# Altium footprint library RectangularConnectors.PcbLib: 154 footprints (part 1 of 10)
Each footprint in its own frame and in the unit in brackets; x right, y up, seen from the top. Pads: shape width x height; smd on the part's side, far side on the other; paste and mask are expansions set on the pad; w line width, h text height; cw(c..) or ccw(c..) is an arc to the next point about the centre after c.
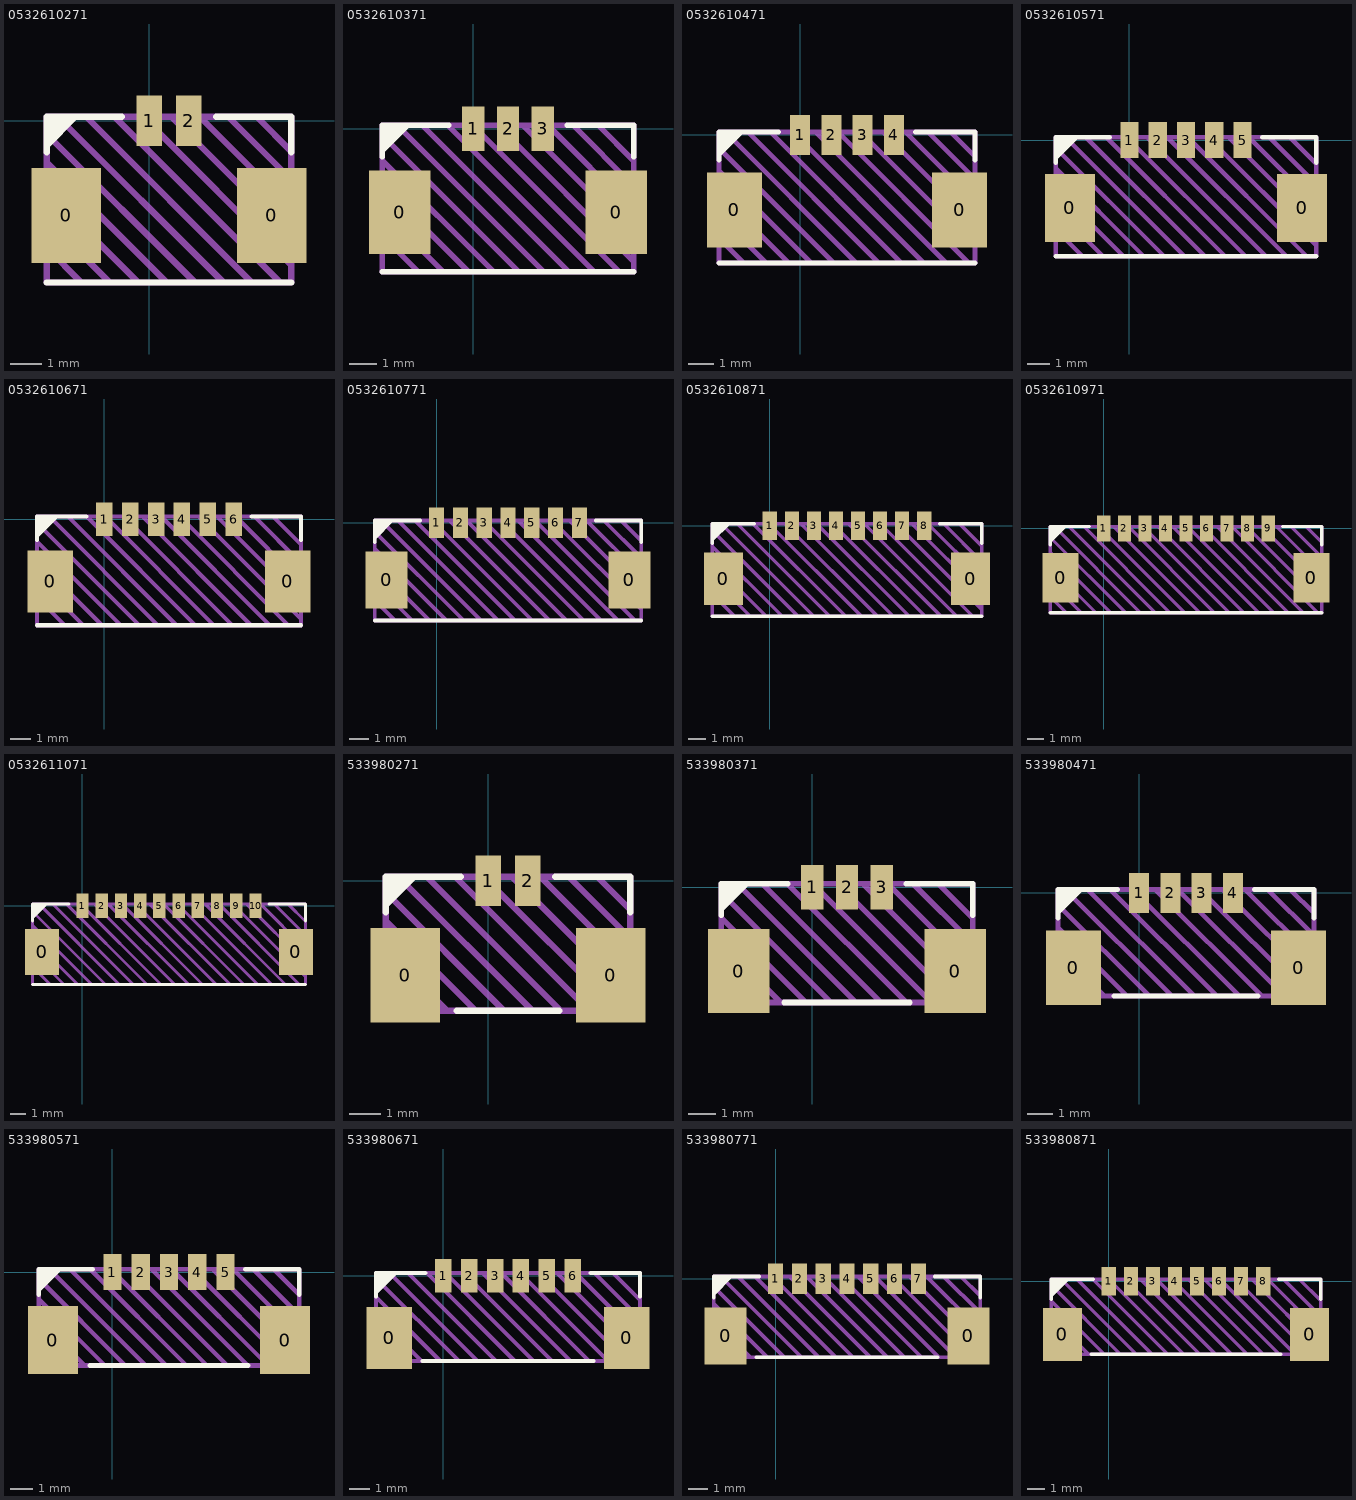
[diagram p0: the footprints below, top view; thin cyan lines are the x and y axes]

## 0532610271 [mm] "Molex PicoBlade 1.25mm Right Angle"
pads (4):
  rect 2.2x3 smd: 0(-2.625,-3) 0(3.875,-3)
  rect 0.8x1.6 smd: 1(0,0) 2(1.25,0)
Top Overlay:
  region: -3.25,-0.915 -2.21,0.125 -3.25,0.125
  lines w0.2: -3.25,-5.125 4.5,-5.125 ; -3.25,-1 -3.25,0.125 -0.875,0.125 ; 2.125,0.125 4.5,0.125 4.5,-1
Top Draw:
  lines w0.2: -3.25,-4.025 -2.15,-5.125 ; -3.25,-3.125 -1.25,-5.125 ; -3.25,-2.225 -0.35,-5.125 ; -3.25,-1.325 0.55,-5.125 ; -3.25,-0.425 1.45,-5.125 ; -2.9,0.125 2.35,-5.125 ; -2,0.125 3.25,-5.125 ; -1.1,0.125 4.15,-5.125 ; -0.2,0.125 4.5,-4.575 ; 0.7,0.125 4.5,-3.675 ; 1.6,0.125 4.5,-2.775 ; 2.5,0.125 4.5,-1.875 ; 3.4,0.125 4.5,-0.975 ; -3.25,-5.125 4.5,-5.125 4.5,0.125 -3.25,0.125 -3.25,-5.125
Top Info:
  text "'.Comment'" at -2.561,-6.312 h0.75
3D body "532610271.step": height 3.42, standoff 0.02, extent -3.2,-5.125 4.45,0.075

## 0532610371 [mm] "Molex PicoBlade 1.25mm Right Angle"
pads (5):
  rect 2.2x3 smd: 0(-2.625,-3) 0(5.125,-3)
  rect 0.8x1.6 smd: 1(0,0) 2(1.25,0) 3(2.5,0)
Top Overlay:
  region: -3.25,-0.915 -2.21,0.125 -3.25,0.125
  lines w0.2: -3.25,-5.125 5.75,-5.125 ; -3.25,-1 -3.25,0.125 -0.875,0.125 ; 3.375,0.125 5.75,0.125 5.75,-1
Top Draw:
  lines w0.2: -3.25,-3.85 -1.975,-5.125 ; -3.25,-2.95 -1.075,-5.125 ; -3.25,-2.05 -0.175,-5.125 ; -3.25,-1.15 0.725,-5.125 ; -3.25,-0.25 1.625,-5.125 ; -2.725,0.125 2.525,-5.125 ; -1.825,0.125 3.425,-5.125 ; -0.925,0.125 4.325,-5.125 ; -0.025,0.125 5.225,-5.125 ; 0.875,0.125 5.75,-4.75 ; 1.775,0.125 5.75,-3.85 ; 2.675,0.125 5.75,-2.95 ; 3.575,0.125 5.75,-2.05 ; 4.475,0.125 5.75,-1.15 ; -3.25,-5.125 5.75,-5.125 5.75,0.125 -3.25,0.125 -3.25,-5.125
Top Info:
  text "'.Comment'" at -1.936,-6.312 h0.75
3D body "532610371.step": height 3.42, standoff 0.02, extent -3.2,-5.075 5.7,0.125

## 0532610471 [mm] "Molex PicoBlade 1.25mm Right Angle"
pads (6):
  rect 2.2x3 smd: 0(-2.625,-3) 0(6.375,-3)
  rect 0.8x1.6 smd: 1(0,0) 2(1.25,0) 3(2.5,0) 4(3.75,0)
Top Overlay:
  region: -3.25,-0.915 -2.21,0.125 -3.25,0.125
  lines w0.2: -3.25,-5.125 7,-5.125 ; -3.25,-1 -3.25,0.125 -0.875,0.125 ; 4.625,0.125 7,0.125 7,-1
Top Draw:
  lines w0.2: -3.25,-4.125 -2.25,-5.125 ; -3.25,-3.225 -1.35,-5.125 ; -3.25,-2.325 -0.45,-5.125 ; -3.25,-1.425 0.45,-5.125 ; -3.25,-0.525 1.35,-5.125 ; -3,0.125 2.25,-5.125 ; -2.1,0.125 3.15,-5.125 ; -1.2,0.125 4.05,-5.125 ; -0.3,0.125 4.95,-5.125 ; 0.6,0.125 5.85,-5.125 ; 1.5,0.125 6.75,-5.125 ; 2.4,0.125 7,-4.475 ; 3.3,0.125 7,-3.575 ; 4.2,0.125 7,-2.675 ; 5.1,0.125 7,-1.775 ; 6,0.125 7,-0.875 ; -3.25,-5.125 7,-5.125 7,0.125 -3.25,0.125 -3.25,-5.125
Top Info:
  text "'.Comment'" at -1.311,-6.312 h0.75
3D body "532610471.step": height 3.42, standoff 0.02, extent -3.2,-5.125 6.95,0.075

## 0532610571 [mm] "Molex PicoBlade 1.25mm Right Angle"
pads (7):
  rect 2.2x3 smd: 0(-2.625,-3) 0(7.625,-3)
  rect 0.8x1.6 smd: 1(0,0) 2(1.25,0) 3(2.5,0) 4(3.75,0) 5(5,0)
Top Overlay:
  region: -3.25,-0.915 -2.21,0.125 -3.25,0.125
  lines w0.2: -3.25,-5.125 8.25,-5.125 ; -3.25,-1 -3.25,0.125 -0.875,0.125 ; 5.875,0.125 8.25,0.125 8.25,-1
Top Draw:
  lines w0.2: -3.25,-3.95 -2.075,-5.125 ; -3.25,-3.05 -1.175,-5.125 ; -3.25,-2.15 -0.275,-5.125 ; -3.25,-1.25 0.625,-5.125 ; -3.25,-0.35 1.525,-5.125 ; -2.825,0.125 2.425,-5.125 ; -1.925,0.125 3.325,-5.125 ; -1.025,0.125 4.225,-5.125 ; -0.125,0.125 5.125,-5.125 ; 0.775,0.125 6.025,-5.125 ; 1.675,0.125 6.925,-5.125 ; 2.575,0.125 7.825,-5.125 ; 3.475,0.125 8.25,-4.65 ; 4.375,0.125 8.25,-3.75 ; 5.275,0.125 8.25,-2.85 ; 6.175,0.125 8.25,-1.95 ; 7.075,0.125 8.25,-1.05 ; -3.25,-5.125 -3.25,0.125 8.25,0.125 8.25,-5.125 -3.25,-5.125
Top Info:
  text "'.Comment'" at -0.686,-6.312 h0.75
3D body "532610571.step": height 3.42, standoff 0.02, extent -3.2,-5.075 8.2,0.125

## 0532610671 [mm] "Molex PicoBlade 1.25mm Right Angle"
pads (8):
  rect 2.2x3 smd: 0(-2.625,-3) 0(8.875,-3)
  rect 0.8x1.6 smd: 1(0,0) 2(1.25,0) 3(2.5,0) 4(3.75,0) 5(5,0) 6(6.25,0)
Top Overlay:
  region: -3.25,-0.915 -2.21,0.125 -3.25,0.125
  lines w0.2: -3.25,-5.125 9.5,-5.125 ; -3.25,-1 -3.25,0.125 -0.875,0.125 ; 7.125,0.125 9.5,0.125 9.5,-1
Top Draw:
  lines w0.2: -3.25,-3.775 -1.9,-5.125 ; -3.25,-2.875 -1,-5.125 ; -3.25,-1.975 -0.1,-5.125 ; -3.25,-1.075 0.8,-5.125 ; -3.25,-0.175 1.7,-5.125 ; -2.65,0.125 2.6,-5.125 ; -1.75,0.125 3.5,-5.125 ; -0.85,0.125 4.4,-5.125 ; 0.05,0.125 5.3,-5.125 ; 0.95,0.125 6.2,-5.125 ; 1.85,0.125 7.1,-5.125 ; 2.75,0.125 8,-5.125 ; 3.65,0.125 8.9,-5.125 ; 4.55,0.125 9.5,-4.825 ; 5.45,0.125 9.5,-3.925 ; 6.35,0.125 9.5,-3.025 ; 7.25,0.125 9.5,-2.125 ; 8.15,0.125 9.5,-1.225 ; -3.25,-5.125 -3.25,0.125 9.5,0.125 9.5,-5.125 -3.25,-5.125
Top Info:
  text "'.Comment'" at -0.061,-6.312 h0.75
3D body "532610671.step": height 3.42, standoff 0.02, extent -3.2,-5.075 9.45,0.125

## 0532610771 [mm] "Molex PicoBlade 1.25mm Right Angle"
pads (9):
  rect 2.2x3 smd: 0(-2.625,-3) 0(10.125,-3)
  rect 0.8x1.6 smd: 1(0,0) 2(1.25,0) 3(2.5,0) 4(3.75,0) 5(5,0) 6(6.25,0) 7(7.5,0)
Top Overlay:
  region: -3.25,-0.915 -2.21,0.125 -3.25,0.125
  lines w0.2: -3.25,-5.125 10.75,-5.125 ; -3.25,-1 -3.25,0.125 -0.875,0.125 ; 8.375,0.125 10.75,0.125 10.75,-1
Top Draw:
  lines w0.2: -3.25,-4.05 -2.175,-5.125 ; -3.25,-3.15 -1.275,-5.125 ; -3.25,-2.25 -0.375,-5.125 ; -3.25,-1.35 0.525,-5.125 ; -3.25,-0.45 1.425,-5.125 ; -2.925,0.125 2.325,-5.125 ; -2.025,0.125 3.225,-5.125 ; -1.125,0.125 4.125,-5.125 ; -0.225,0.125 5.025,-5.125 ; 0.675,0.125 5.925,-5.125 ; 1.575,0.125 6.825,-5.125 ; 2.475,0.125 7.725,-5.125 ; 3.375,0.125 8.625,-5.125 ; 4.275,0.125 9.525,-5.125 ; 5.175,0.125 10.425,-5.125 ; 6.075,0.125 10.75,-4.55 ; 6.975,0.125 10.75,-3.65 ; 7.875,0.125 10.75,-2.75 ; 8.775,0.125 10.75,-1.85 ; 9.675,0.125 10.75,-0.95 ; -3.25,-5.125 10.75,-5.125 10.75,0.125 -3.25,0.125 -3.25,-5.125
Top Info:
  text "'.Comment'" at 0.564,-6.312 h0.75
3D body "532610771.step": height 3.42, standoff 0.02, extent -3.2,-5.075 10.7,0.125

## 0532610871 [mm] "Molex PicoBlade 1.25mm Right Angle"
pads (10):
  rect 2.2x3 smd: 0(-2.625,-3) 0(11.375,-3)
  rect 0.8x1.6 smd: 1(0,0) 2(1.25,0) 3(2.5,0) 4(3.75,0) 5(5,0) 6(6.25,0) 7(7.5,0) 8(8.75,0)
Top Overlay:
  region: -3.25,-0.915 -2.21,0.125 -3.25,0.125
  lines w0.2: -3.25,-5.125 12,-5.125 ; -3.25,-1 -3.25,0.125 -0.875,0.125 ; 9.625,0.125 12,0.125 12,-1
Top Draw:
  lines w0.2: -3.25,-3.875 -2,-5.125 ; -3.25,-2.975 -1.1,-5.125 ; -3.25,-2.075 -0.2,-5.125 ; -3.25,-1.175 0.7,-5.125 ; -3.25,-0.275 1.6,-5.125 ; -2.75,0.125 2.5,-5.125 ; -1.85,0.125 3.4,-5.125 ; -0.95,0.125 4.3,-5.125 ; -0.05,0.125 5.2,-5.125 ; 0.85,0.125 6.1,-5.125 ; 1.75,0.125 7,-5.125 ; 2.65,0.125 7.9,-5.125 ; 3.55,0.125 8.8,-5.125 ; 4.45,0.125 9.7,-5.125 ; 5.35,0.125 10.6,-5.125 ; 6.25,0.125 11.5,-5.125 ; 7.15,0.125 12,-4.725 ; 8.05,0.125 12,-3.825 ; 8.95,0.125 12,-2.925 ; 9.85,0.125 12,-2.025 ; 10.75,0.125 12,-1.125 ; -3.25,-5.125 -3.25,0.125 12,0.125 12,-5.125 -3.25,-5.125
Top Info:
  text "'.Comment'" at 1.189,-6.312 h0.75
3D body "532610871.step": height 3.42, standoff 0.02, extent -3.2,-5.075 11.95,0.125

## 0532610971 [mm] "Molex PicoBlade 1.25mm Right Angle"
pads (11):
  rect 2.2x3 smd: 0(-2.625,-3) 0(12.625,-3)
  rect 0.8x1.6 smd: 1(0,0) 2(1.25,0) 3(2.5,0) 4(3.75,0) 5(5,0) 6(6.25,0) 7(7.5,0) 8(8.75,0) 9(10,0)
Top Overlay:
  region: -3.25,-0.915 -2.21,0.125 -3.25,0.125
  lines w0.2: -3.25,-5.125 13.25,-5.125 ; -3.25,-1 -3.25,0.125 -0.875,0.125 ; 10.875,0.125 13.25,0.125 13.25,-1
Top Draw:
  lines w0.2: -3.25,-4.15 -2.275,-5.125 ; -3.25,-3.25 -1.375,-5.125 ; -3.25,-2.35 -0.475,-5.125 ; -3.25,-1.45 0.425,-5.125 ; -3.25,-0.55 1.325,-5.125 ; -3.025,0.125 2.225,-5.125 ; -2.125,0.125 3.125,-5.125 ; -1.225,0.125 4.025,-5.125 ; -0.325,0.125 4.925,-5.125 ; 0.575,0.125 5.825,-5.125 ; 1.475,0.125 6.725,-5.125 ; 2.375,0.125 7.625,-5.125 ; 3.275,0.125 8.525,-5.125 ; 4.175,0.125 9.425,-5.125 ; 5.075,0.125 10.325,-5.125 ; 5.975,0.125 11.225,-5.125 ; 6.875,0.125 12.125,-5.125 ; 7.775,0.125 13.025,-5.125 ; 8.675,0.125 13.25,-4.45 ; 9.575,0.125 13.25,-3.55 ; 10.475,0.125 13.25,-2.65 ; 11.375,0.125 13.25,-1.75 ; 12.275,0.125 13.25,-0.85 ; -3.25,-5.125 -3.25,0.125 13.25,0.125 13.25,-5.125 -3.25,-5.125
Top Info:
  text "'.Comment'" at 1.814,-6.312 h0.75
3D body "532610971.step": height 3.42, standoff 0.02, extent -3.2,-5.075 13.2,0.125

## 0532611071 [mm] "Molex PicoBlade 1.25mm Right Angle"
pads (12):
  rect 2.2x3 smd: 0(-2.625,-3) 0(13.875,-3)
  rect 0.8x1.6 smd: 1(0,0) 2(1.25,0) 3(2.5,0) 4(3.75,0) 5(5,0) 6(6.25,0) 7(7.5,0) 8(8.75,0) 9(10,0) 10(11.25,0)
Top Overlay:
  region: -3.25,-0.915 -2.21,0.125 -3.25,0.125
  lines w0.2: -3.25,-5.125 14.5,-5.125 ; -3.25,-1 -3.25,0.125 -0.875,0.125 ; 12.125,0.125 14.5,0.125 14.5,-1
Top Draw:
  lines w0.2: -3.25,-3.975 -2.1,-5.125 ; -3.25,-3.075 -1.2,-5.125 ; -3.25,-2.175 -0.3,-5.125 ; -3.25,-1.275 0.6,-5.125 ; -3.25,-0.375 1.5,-5.125 ; -2.85,0.125 2.4,-5.125 ; -1.95,0.125 3.3,-5.125 ; -1.05,0.125 4.2,-5.125 ; -0.15,0.125 5.1,-5.125 ; 0.75,0.125 6,-5.125 ; 1.65,0.125 6.9,-5.125 ; 2.55,0.125 7.8,-5.125 ; 3.45,0.125 8.7,-5.125 ; 4.35,0.125 9.6,-5.125 ; 5.25,0.125 10.5,-5.125 ; 6.15,0.125 11.4,-5.125 ; 7.05,0.125 12.3,-5.125 ; 7.95,0.125 13.2,-5.125 ; 8.85,0.125 14.1,-5.125 ; 9.75,0.125 14.5,-4.625 ; 10.65,0.125 14.5,-3.725 ; 11.55,0.125 14.5,-2.825 ; 12.45,0.125 14.5,-1.925 ; 13.35,0.125 14.5,-1.025 ; -3.25,-5.125 14.5,-5.125 14.5,0.125 -3.25,0.125 -3.25,-5.125
Top Info:
  text "'.Comment'" at 2.439,-6.312 h0.75
3D body "532611071.step": height 3.42, standoff 0.02, extent -3.2,-5.075 14.45,0.125

## 533980271 [mm] "Molex PicoBlade 1.25mm Straight"
pads (4):
  rect 2.2x3 smd: 0(-2.625,-3) 0(3.875,-3)
  rect 0.8x1.6 smd: 1(0,0) 2(1.25,0)
Top Overlay:
  region: -3.25,-0.915 -2.21,0.125 -3.25,0.125
  lines w0.2: -3.25,-1 -3.25,0.125 -0.875,0.125 ; -1,-4.125 2.25,-4.125 ; 2.125,0.125 4.5,0.125 4.5,-1
Top Draw:
  lines w0.2: -3.25,-3.075 -2.2,-4.125 ; -3.25,-2.175 -1.3,-4.125 ; -3.25,-1.275 -0.4,-4.125 ; -3.25,-0.375 0.5,-4.125 ; -2.85,0.125 1.4,-4.125 ; -1.95,0.125 2.3,-4.125 ; -1.05,0.125 3.2,-4.125 ; -0.15,0.125 4.1,-4.125 ; 0.75,0.125 4.5,-3.625 ; 1.65,0.125 4.5,-2.725 ; 2.55,0.125 4.5,-1.825 ; 3.45,0.125 4.5,-0.925 ; -3.25,-4.125 4.5,-4.125 4.5,0.125 -3.25,0.125 -3.25,-4.125
Top Info:
  text "'.Comment'" at -2.561,-5.687 h0.75
3D body "533980271.step": height 4.7, standoff 0, extent -3.2,-4.075 4.45,0.125

## 533980371 [mm] "Molex PicoBlade 1.25mm Straight"
pads (5):
  rect 2.2x3 smd: 0(-2.625,-3) 0(5.125,-3)
  rect 0.8x1.6 smd: 1(0,0) 2(1.25,0) 3(2.5,0)
Top Overlay:
  region: -3.25,-0.915 -2.21,0.125 -3.25,0.125
  lines w0.2: -3.25,-1 -3.25,0.125 -0.875,0.125 ; -1,-4.125 3.5,-4.125 ; 3.375,0.125 5.75,0.125 5.75,-1
Top Draw:
  lines w0.2: -3.25,-2.9 -2.025,-4.125 ; -3.25,-2 -1.125,-4.125 ; -3.25,-1.1 -0.225,-4.125 ; -3.25,-0.2 0.675,-4.125 ; -2.675,0.125 1.575,-4.125 ; -1.775,0.125 2.475,-4.125 ; -0.875,0.125 3.375,-4.125 ; 0.025,0.125 4.275,-4.125 ; 0.925,0.125 5.175,-4.125 ; 1.825,0.125 5.75,-3.8 ; 2.725,0.125 5.75,-2.9 ; 3.625,0.125 5.75,-2 ; 4.525,0.125 5.75,-1.1 ; -3.25,-4.125 -3.25,0.125 5.75,0.125 5.75,-4.125 -3.25,-4.125
Top Info:
  text "'.Comment'" at -1.936,-5.687 h0.75
3D body "533980371.step": height 4.7, standoff 0, extent -3.2,-4.075 5.7,0.125

## 533980471 [mm] "Molex PicoBlade 1.25mm Straight"
pads (6):
  rect 2.2x3 smd: 0(-2.625,-3) 0(6.375,-3)
  rect 0.8x1.6 smd: 1(0,0) 2(1.25,0) 3(2.5,0) 4(3.75,0)
Top Overlay:
  region: -3.25,-0.915 -2.21,0.125 -3.25,0.125
  lines w0.2: -3.25,-1 -3.25,0.125 -0.875,0.125 ; -1,-4.125 4.75,-4.125 ; 4.625,0.125 7,0.125 7,-1
Top Draw:
  lines w0.2: -3.25,-3.175 -2.3,-4.125 ; -3.25,-2.275 -1.4,-4.125 ; -3.25,-1.375 -0.5,-4.125 ; -3.25,-0.475 0.4,-4.125 ; -2.95,0.125 1.3,-4.125 ; -2.05,0.125 2.2,-4.125 ; -1.15,0.125 3.1,-4.125 ; -0.25,0.125 4,-4.125 ; 0.65,0.125 4.9,-4.125 ; 1.55,0.125 5.8,-4.125 ; 2.45,0.125 6.7,-4.125 ; 3.35,0.125 7,-3.525 ; 4.25,0.125 7,-2.625 ; 5.15,0.125 7,-1.725 ; 6.05,0.125 7,-0.825 ; -3.25,-4.125 -3.25,0.125 7,0.125 7,-4.125 -3.25,-4.125
Top Info:
  text "'.Comment'" at -1.311,-5.687 h0.75
3D body "533980471.step": height 4.7, standoff 0, extent -3.2,-4.075 6.95,0.125

## 533980571 [mm] "Molex PicoBlade 1.25mm Straight"
pads (7):
  rect 2.2x3 smd: 0(-2.625,-3) 0(7.625,-3)
  rect 0.8x1.6 smd: 1(0,0) 2(1.25,0) 3(2.5,0) 4(3.75,0) 5(5,0)
Top Overlay:
  region: -3.25,-0.915 -2.21,0.125 -3.25,0.125
  lines w0.2: -3.25,-1 -3.25,0.125 -0.875,0.125 ; -1,-4.125 6,-4.125 ; 5.875,0.125 8.25,0.125 8.25,-1
Top Draw:
  lines w0.2: -3.25,-3 -2.125,-4.125 ; -3.25,-2.1 -1.225,-4.125 ; -3.25,-1.2 -0.325,-4.125 ; -3.25,-0.3 0.575,-4.125 ; -2.775,0.125 1.475,-4.125 ; -1.875,0.125 2.375,-4.125 ; -0.975,0.125 3.275,-4.125 ; -0.075,0.125 4.175,-4.125 ; 0.825,0.125 5.075,-4.125 ; 1.725,0.125 5.975,-4.125 ; 2.625,0.125 6.875,-4.125 ; 3.525,0.125 7.775,-4.125 ; 4.425,0.125 8.25,-3.7 ; 5.325,0.125 8.25,-2.8 ; 6.225,0.125 8.25,-1.9 ; 7.125,0.125 8.25,-1 ; -3.25,-4.125 -3.25,0.125 8.25,0.125 8.25,-4.125 -3.25,-4.125
Top Info:
  text "'.Comment'" at -0.686,-5.687 h0.75
3D body "533980571.step": height 4.7, standoff 0, extent -3.2,-4.075 8.2,0.125

## 533980671 [mm] "Molex PicoBlade 1.25mm Straight"
pads (8):
  rect 2.2x3 smd: 0(-2.625,-3) 0(8.875,-3)
  rect 0.8x1.6 smd: 1(0,0) 2(1.25,0) 3(2.5,0) 4(3.75,0) 5(5,0) 6(6.25,0)
Top Overlay:
  region: -3.25,-0.915 -2.21,0.125 -3.25,0.125
  lines w0.2: -3.25,-1 -3.25,0.125 -0.875,0.125 ; -1,-4.125 7.25,-4.125 ; 7.125,0.125 9.5,0.125 9.5,-1
Top Draw:
  lines w0.2: -3.25,-2.825 -1.95,-4.125 ; -3.25,-1.925 -1.05,-4.125 ; -3.25,-1.025 -0.15,-4.125 ; -3.25,-0.125 0.75,-4.125 ; -2.6,0.125 1.65,-4.125 ; -1.7,0.125 2.55,-4.125 ; -0.8,0.125 3.45,-4.125 ; 0.1,0.125 4.35,-4.125 ; 1,0.125 5.25,-4.125 ; 1.9,0.125 6.15,-4.125 ; 2.8,0.125 7.05,-4.125 ; 3.7,0.125 7.95,-4.125 ; 4.6,0.125 8.85,-4.125 ; 5.5,0.125 9.5,-3.875 ; 6.4,0.125 9.5,-2.975 ; 7.3,0.125 9.5,-2.075 ; 8.2,0.125 9.5,-1.175 ; -3.25,-4.125 -3.25,0.125 9.5,0.125 9.5,-4.125 -3.25,-4.125
Top Info:
  text "'.Comment'" at -0.061,-5.687 h0.75
3D body "533980671.step": height 4.7, standoff 0, extent -3.2,-4.075 9.45,0.125

## 533980771 [mm] "Molex PicoBlade 1.25mm Straight"
pads (9):
  rect 2.2x3 smd: 0(-2.625,-3) 0(10.125,-3)
  rect 0.8x1.6 smd: 1(0,0) 2(1.25,0) 3(2.5,0) 4(3.75,0) 5(5,0) 6(6.25,0) 7(7.5,0)
Top Overlay:
  region: -3.25,-0.915 -2.21,0.125 -3.25,0.125
  lines w0.2: -3.25,-1 -3.25,0.125 -0.875,0.125 ; -1,-4.125 8.5,-4.125 ; 8.375,0.125 10.75,0.125 10.75,-1
Top Draw:
  lines w0.2: -3.25,-3.1 -2.225,-4.125 ; -3.25,-2.2 -1.325,-4.125 ; -3.25,-1.3 -0.425,-4.125 ; -3.25,-0.4 0.475,-4.125 ; -2.875,0.125 1.375,-4.125 ; -1.975,0.125 2.275,-4.125 ; -1.075,0.125 3.175,-4.125 ; -0.175,0.125 4.075,-4.125 ; 0.725,0.125 4.975,-4.125 ; 1.625,0.125 5.875,-4.125 ; 2.525,0.125 6.775,-4.125 ; 3.425,0.125 7.675,-4.125 ; 4.325,0.125 8.575,-4.125 ; 5.225,0.125 9.475,-4.125 ; 6.125,0.125 10.375,-4.125 ; 7.025,0.125 10.75,-3.6 ; 7.925,0.125 10.75,-2.7 ; 8.825,0.125 10.75,-1.8 ; 9.725,0.125 10.75,-0.9 ; -3.25,-4.125 10.75,-4.125 10.75,0.125 -3.25,0.125 -3.25,-4.125
Top Info:
  text "'.Comment'" at 0.564,-5.687 h0.75
3D body "533980771.step": height 4.7, standoff 0, extent -3.2,-4.075 10.7,0.125

## 533980871 [mm] "Molex PicoBlade 1.25mm Straight"
pads (10):
  rect 2.2x3 smd: 0(-2.625,-3) 0(11.375,-3)
  rect 0.8x1.6 smd: 1(0,0) 2(1.25,0) 3(2.5,0) 4(3.75,0) 5(5,0) 6(6.25,0) 7(7.5,0) 8(8.75,0)
Top Overlay:
  region: -3.25,-0.915 -2.21,0.125 -3.25,0.125
  lines w0.2: -3.25,-1 -3.25,0.125 -0.875,0.125 ; -1,-4.125 9.75,-4.125 ; 9.625,0.125 12,0.125 12,-1
Top Draw:
  lines w0.2: -3.25,-2.925 -2.05,-4.125 ; -3.25,-2.025 -1.15,-4.125 ; -3.25,-1.125 -0.25,-4.125 ; -3.25,-0.225 0.65,-4.125 ; -2.7,0.125 1.55,-4.125 ; -1.8,0.125 2.45,-4.125 ; -0.9,0.125 3.35,-4.125 ; 0,0.125 4.25,-4.125 ; 0.9,0.125 5.15,-4.125 ; 1.8,0.125 6.05,-4.125 ; 2.7,0.125 6.95,-4.125 ; 3.6,0.125 7.85,-4.125 ; 4.5,0.125 8.75,-4.125 ; 5.4,0.125 9.65,-4.125 ; 6.3,0.125 10.55,-4.125 ; 7.2,0.125 11.45,-4.125 ; 8.1,0.125 12,-3.775 ; 9,0.125 12,-2.875 ; 9.9,0.125 12,-1.975 ; 10.8,0.125 12,-1.075 ; -3.25,-4.125 12,-4.125 12,0.125 -3.25,0.125 -3.25,-4.125
Top Info:
  text "'.Comment'" at 1.189,-5.687 h0.75
3D body "533980871.step": height 4.7, standoff 0, extent -3.2,-4.075 11.95,0.125